# Altium schematic symbol library M032FC1AE.SchLib: 1 symbol
Pins are listed as number, name and electrical type; pins without a type are passive.

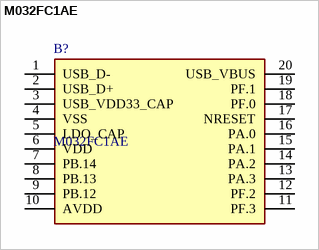
[diagram p0: symbol M032FC1AE]

## M032FC1AE
designator B?
IC MCU 32BIT CORTEX-M0 32KB FLAS; Manufacturer_Name: Nuvoton; Geometry.Height: 1.2mm; Mouser Part Number: *; Mouser Price/Stock: *; Manufacturer_Part_Number: M032FC1AE; Datasheet Link: https://datasheet.lcsc.com/lcsc/2009261437_Nuvoton-Tech-M031LD2AE_C841531.pdf
footprint SOP65P640X120-20N
pins: 1 USB_D-, 2 USB_D+, 3 USB_VDD33_CAP, 4 VSS, 5 LDO_CAP, 6 VDD, 7 PB.14, 8 PB.13, 9 PB.12, 10 AVDD, 11 PF.3, 12 PF.2, 13 PA.3, 14 PA.2, 15 PA.1, 16 PA.0, 17 NRESET, 18 PF.0, 19 PF.1, 20 USB_VBUS